# Altium schematic symbol library Custom1.SchLib: 476 symbols (part 15 of 16)
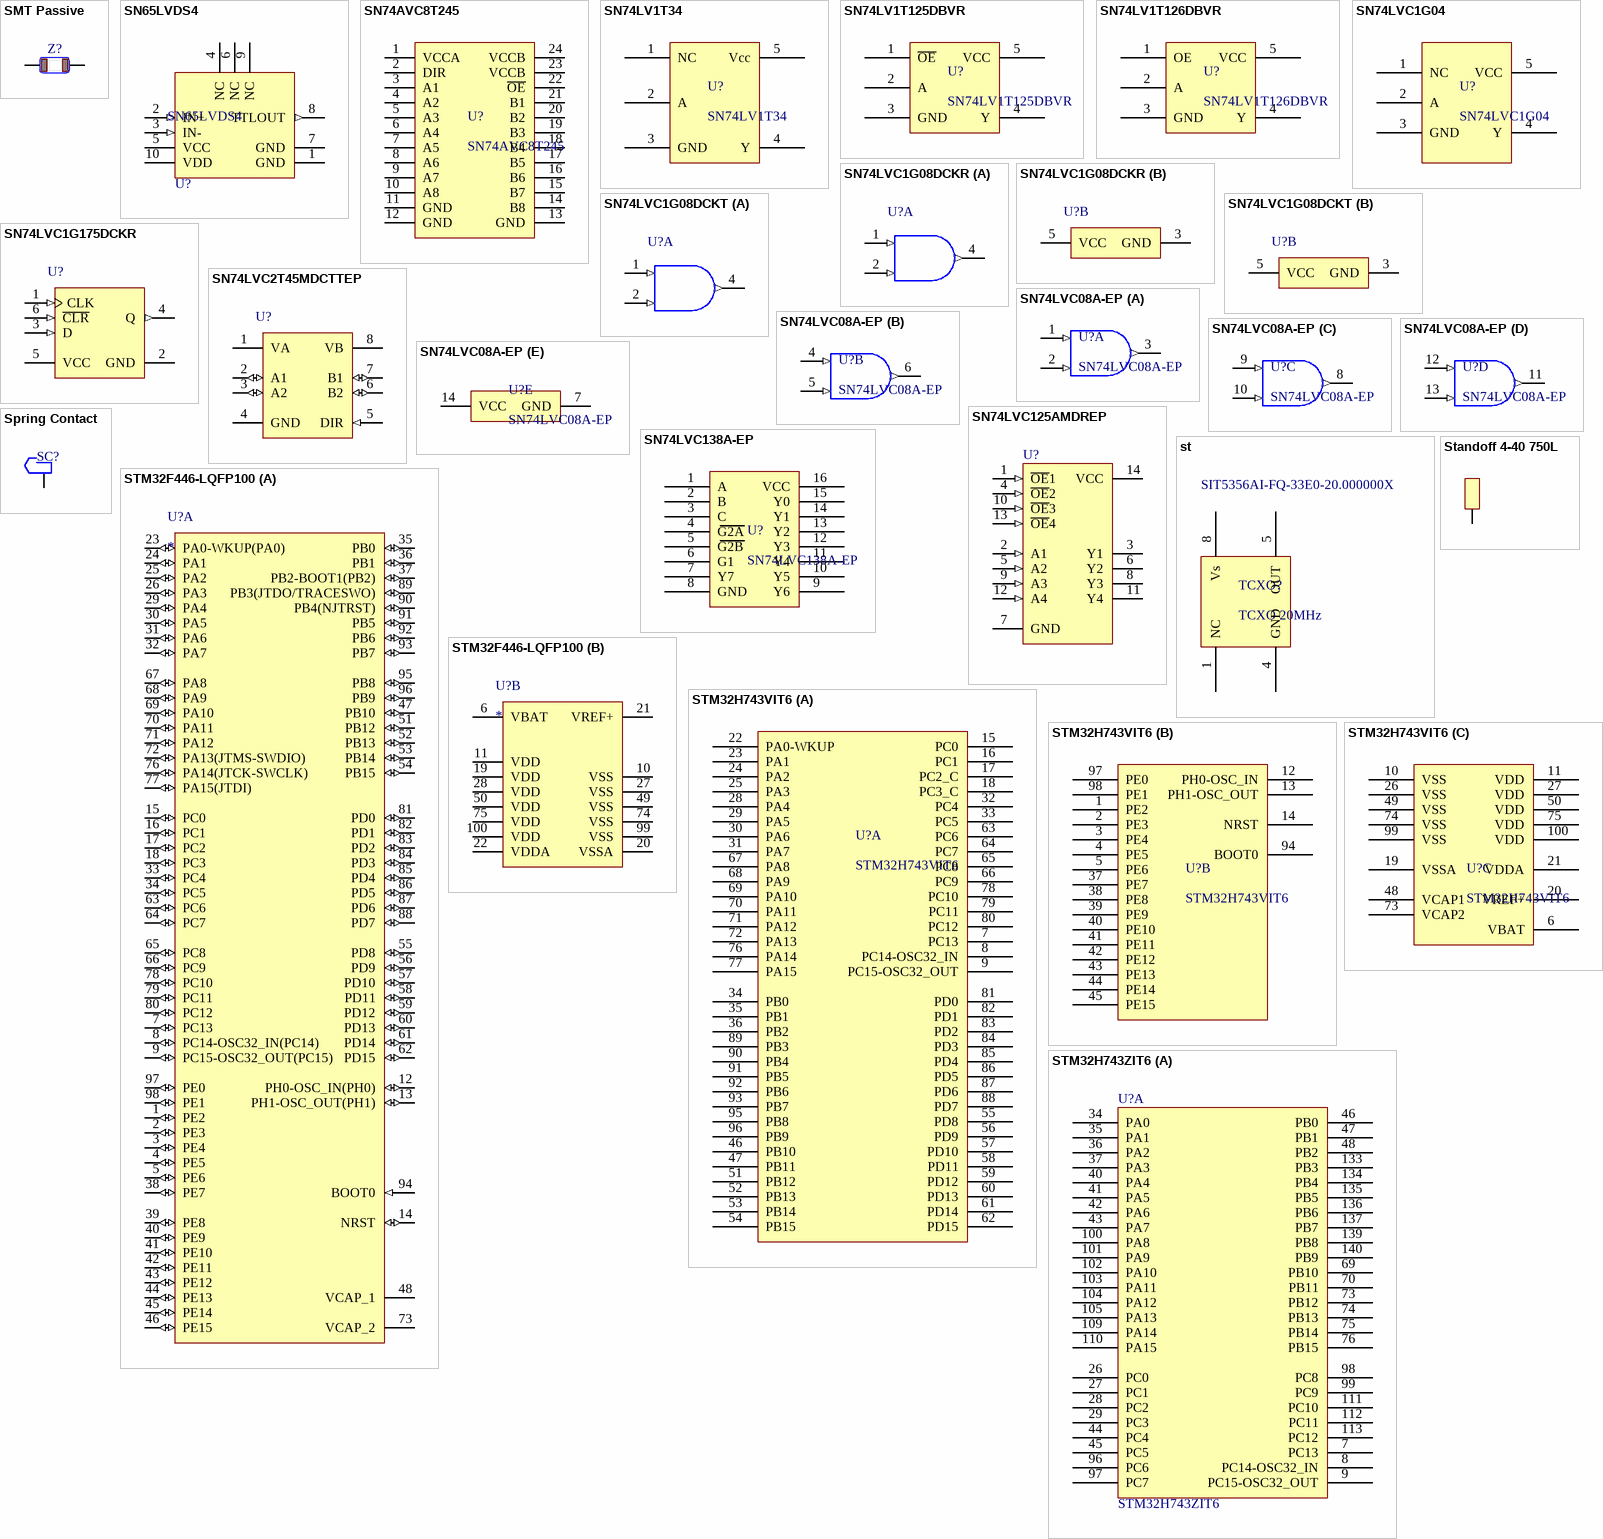
[diagram p39: symbols SMT Passive to STM32H743ZIT6]

## SN74LVC08A-EP
designator U?
Manufacturer: Texas Instruments; Manufacturer Part Number: SN74LVC08AMPWREP; Number of Inputs: 2; Propagation Delay: 4.1ns; Logic Function: AND; Min Supply Voltage: 2V; Max Supply Voltage: 3.6V; Number of Circuits: 4; Quiescent Current: 10uA; High Level Output Current: -24mA; Low Level Output Current: 24mA; Number of Output Lines: 1; Output Type: TTL; Supplier 1: Digi-Key; Stock 1: 2405; Pricing 1: 1=0.87000, 10=0.76500, 100=0.58630, 500=0.46350, 1000=0.37080 (USD); RoHS: Yes; Mount: Surface Mount; Case/Package: TSSOP; Number of Pins: 14; Weight: 0.002018oz; Min Operating Temperature: -40°C; Max Operating Temperature: 125°C; Package Quantity: 1; Packaging: Tape and Reel; Number of Gates: 4; Number of Input Lines: 2; Turn-On Delay Time: 4.1ns; Number of Bits: 4; Number of Outputs: 1; Number of Elements: 4; Radiation Hardening: No; Lead Free: Lead Free; Supplier Part Number 1: 296-22330-1-ND; ComponentLink1Description: Supplier Link; ComponentLink1URL: https://www.digikey.com/products/en?keywords=296-22330-1-ND; ComponentLink2Description: Datasheet; ComponentLink2URL: http://www.ti.com/general/docs/suppproductinfo.tsp?distId=10&gotoUrl=http%3A%2F%2Fwww.ti.com%2Flit%2Fgpn%2Fsn74lvc08a-ep
footprint PW0014A_M (SOP, 14-Leads, Body 5.1x4.5mm, Pitch 0.65mm, IPC Low Density)
part A pins: 1 1A (in) "Input A", 2 1B (in) "Input B", 3 1Y (out) "Output Y"
part B pins: 4 2A (in) "Input A", 5 2B (in) "Input B", 6 2Y (out) "Output Y"
part C pins: 8 3Y (out) "Output Y", 9 3A (in) "Input A", 10 3B (in) "Input B"
part D pins: 11 4Y (out) "Output Y", 12 4A (in) "Input A", 13 4B (in) "Input B"
part E pins: 7 GND (power) "Ground Pin", 14 VCC (power) "Power Pin"

## SN74LVC125AMDREP
designator U?
Quadruple Bus Buffer Gate with 3-State Outputs; Manufacturer: Texas Instruments; Manufacturer Part Number: SN74LVC125AMDREP; Logic Function: Buffer,Inverting; Polarity: Non-Inverting; Max Supply Voltage: 3.6V; Min Supply Voltage: 1.65V; Propagation Delay: 7ns; Number of Channels: 4; Low Level Output Current: 24mA; Number of Bits per Element: 1; High Level Output Current: -24mA; Turn-On Delay Time: 14.3ns; Quiescent Current: 10uA; ComponentLink1Description: Manufacturer Link; ComponentLink1URL: http://www.ti.com/; ComponentLink2Description: Discontinuation Notice; ComponentLink2URL: http://focus.ti.com/docs/prod/folders/print/sn74lvc125.html; Supplier 1: Digi-Key; Stock 1: 1097; Pricing 1: 1 = 1.50000, 10 = 1.33700, 100 = 1.04240, 500 = 0.86108, 1000 = 0.67980 (USD); RoHS: Yes; Mount: Surface Mount; Case/Package: SOIC; Number of Pins: 14; Min Operating Temperature: -40°C; Max Operating Temperature: 85°C; Package Quantity: 2500; Packaging: Tape and Reel; Number of Inputs: 4; Number of Outputs: 4; Number of Elements: 4; Number of Input Lines: 4; Number of Output Lines: 4; Number of Bits: 4; Radiation Hardening: No; REACH SVHC: No SVHC; Lead Free: Lead Free; ComponentLink3URL: http://www.mouser.com/ds/2/405/scas739c-110679.pdf?src-supplier=Mouser; ComponentLink3Description: http://www.mouser.com/ds/2/405/scas739c-110679.pdf?src-supplier=Mouser; ComponentLink4URL: http://www.ti.com/general/docs/lit/getliterature.tsp?genericPartNumber=SN74LVC125A-EP&&fileType=pdf&src-supplier=Avnet; ComponentLink4Description: http://www.ti.com/general/docs/lit/getliterature.tsp?genericPartNumber=SN74LVC125A-EP&&fileType=pdf&src-supplier=Avnet; ComponentLink5URL: http://www.ti.com/lit/ds/symlink/sn74lvc125a-ep.pdf?src-supplier=Digi-Key; ComponentLink5Description: http://www.ti.com/lit/ds/symlink/sn74lvc125a-ep.pdf?src-supplier=Digi-Key; Supplier Part Number 1: 296-21813-1-ND
footprint D014_N (SOIC, 14-Leads, Body 8.7x3.9mm, Pitch 1.27mm, IPC Medium Density)
3D model D014 (14-Pin Small Outline Integrated Circuit 1.27 mm Pitch)
signal-integrity model SN74LVC125D
pins: 1 ~{OE}1 (in), 2 A1 (in), 3 Y1 (hiz), 4 ~{OE}2 (in), 5 A2 (in), 6 Y2 (hiz), 7 GND (power), 8 Y3 (hiz), 9 A3 (in), 10 ~{OE}3 (in), 11 Y4 (hiz), 12 A4 (in), 13 ~{OE}4 (in), 14 VCC (power)

## SN74LVC138A-EP
designator U?
IC DECDER/DEMUX 3-8 LINE 16TSSOP; Manufacturer: Texas Instruments; Manufacturer Part Number: SN74LVC138AMPWTEP; Number of Inputs: 3; Number of Outputs: 8; Max Supply Voltage: 3.6V; Min Supply Voltage: 2V; Propagation Delay: 6.7ns; Logic Function: Decoder; Number of Elements: 1; High Level Output Current: -24mA; Low Level Output Current: 24mA; Polarity: Inverting; Turn-On Delay Time: 7.9ns; Quiescent Current: 10uA; Supply Type: Single; Supplier 1: Digi-Key; Stock 1: 758; Pricing 1: 1 = 2.13000, 10 = 1.91100, 100 = 1.53570 (USD); RoHS: Yes; Mount: Surface Mount; Case/Package: TSSOP; Number of Pins: 16; Weight: 0.002183oz; Min Operating Temperature: -40°C; Max Operating Temperature: 125°C; Packaging: Tape and Reel; Package Quantity: 250; Number of Input Lines: 3; Number of Output Lines: 8; Independent Circuits: 1; Number of Channels: 1; Radiation Hardening: No; Lead Free: Lead Free; Supplier Part Number 1: 296-24670-1-ND; ComponentLink1Description: Supplier Link; ComponentLink1URL: https://www.digikey.com/products/en?keywords=296-24670-1-ND; ComponentLink2Description: Datasheet; ComponentLink2URL: http://www.ti.com/general/docs/suppproductinfo.tsp?distId=10&gotoUrl=http%3A%2F%2Fwww.ti.com%2Flit%2Fgpn%2Fsn74lvc138a-ep
footprint PW0016A - TSSOP (TSSOP)
pins: 1 A, 2 B, 3 C, 4 G2A, 5 G2B, 6 G1, 7 Y7, 8 GND, 9 Y6, 10 Y5, 11 Y4, 12 Y3, 13 Y2, 14 Y1, 15 Y0, 16 VCC

## Spring Contact
designator SC?, comment Spring Contact S1941-42R SMT  (value not drawn)
RFI SHIELD FINGER GOLD SMD; Manufacturer: Harwin; ComponentLink1Description: Drawing; ComponentLink1URL: https://cdn.harwin.com/pdfs/S1941R.pdf; ComponentLink2Description: Supplier Link; ComponentLink2URL: https://www.digikey.com/products/en?keywords=952-3245-1-ND; Supplier 1: Digi-Key; Manufacturer Part Number: S1941-42R; Stock 1: 2973; Pricing 1: 1=0.68000, 10=0.56900, 25=0.49760, 100=0.42640 (USD); RoHS: No; Supplier Part Number 1: 952-3245-1-ND
footprint Spring Contact SM (Harwin S1941- 42R)
pins: 1

## st
designator TCXO?, comment TCXO 20MHz  Manufacturer Part Number: SIT5356AI-FQ-33E0-20.000000X
MEMS OSC TCXO 20.0000MHZ LVCMOS; Manufacturer: SiTime; Supplier 1: Digi-Key; Stock 1: 158; Pricing 1: 1 = 60.55000, 10 = 57.42000, 50 = 56.37640, 100 = 54.28840 (USD); RoHS: No; Supplier Part Number 1: 1473-30921-1-ND
footprint IQXT-210-1 (TCXO  IQD)
pins: 1 NC, 4 GND, 5 OUT, 8 Vs

## Standoff 4-40 750L
designator SO?  (value not drawn)
footprint Standoff 4-40 750
pins: 1

## STM32F446-LQFP100
designator U?
part A pins: 1 PE2 (io) "PE2/TRACECLK,SPI4_SCK,SAI1_MCLK_A,QUADSPI_BK1_IO2,FMC_A23,EVENTOUT", 2 PE3 (io) "PE3/TRACED0,SAI1_SD_B,FMC_A19,EVENTOUT", 3 PE4 (io) "PE4/TRACED1,SPI4_NSS,SAI1_FS_A,FMC_A20,DCMI_D4,EVENTOUT", 4 PE5 (io) "PE5/TRACED2,TIM9_CH1,SPI4_MISO,SAI1_SCK_A,FMC_A21,DCMI_D6,EVENTOUT", 5 PE6 (io) "PE6/TRACED3,TIM9_CH2,SPI4_MOSI,SAI1_SD_A,FMC_A22,DCMI_D7,EVENTOUT", 7 PC13 (io) "PC13/EVENTOUT/TAMP_1/WKUP1", 8 PC14-OSC32_IN(PC14) (io) "PC14/EVENTOUT/OSC32_IN", 9 PC15-OSC32_OUT(PC15) (io) "PC15/EVENTOUT/OSC32_OUT", 12 PH0-OSC_IN(PH0) (io) "PH0/EVENTOUT/OSC_IN", 13 PH1-OSC_OUT(PH1) (io) "PH1/EVENTOUT/OSC_OUT", 14 NRST (io), 15 PC0 (io) "PC0/SAI1_MCLK_B,OTG_HS_ULPI_STP,FMC_SDNWE,EVENTOUT/ADC123_IN10", 16 PC1 (io) "PC1/SPI3_MOSI/I2S3_SD,SAI1_SD_A,SPI2_MOSI/I2S2_SD,EVENTOUT/ADC123_IN11", 17 PC2 (io) "PC2/SPI2_MISO,OTG_HS_ULPI_DIR,FMC_SDNE0,EVENTOUT/ADC123_IN12", 18 PC3 (io) "PC3/SPI2_MOSI/I2S2_SD,OTG_HS_ULPI_NXT,FMC_SDCKE0,EVENTOUT/ADC123_IN13", 23 PA0-WKUP(PA0) (io) "PA0-WKUP(PA0)/TIM2_CH1/TIM2_ETR,TIM5_CH1,TIM8_ETR,USART2_CTS,UART4_TX,EVENTOUT/ADC123_IN0,WKUP0/TAMP_2", 24 PA1 (io) "PA1/TIM2_CH2,TIM5_CH2,USART2_RTS,UART4_RX,QUADSPI_BK1_IO3,SAI2_MCLK_B,EVENTOUT/ADC123_IN1", 25 PA2 (io) "PA2/TIM2_CH3,TIM5_CH3,TIM9_CH1,USART2_TX,SAI2_SCK_B,EVENTOUT/ADC123_IN2", 26 PA3 (io) "PA3/TIM2_CH4,TIM5_CH4,TIM9_CH2,SAI1_FS_A,USART2_RX,OTG_HS_ULPI_D0,EVENTOUT/ADC123_IN3", 29 PA4 (io) "PA4/SPI1_NSS/I2S1_WS,SPI3_NSS/I2S3_WS,USART2_CK,OTG_HS_SOF,DCMI_HSYNC,EVENTOUT/ADC12_IN4,DAC_OUT1", 30 PA5 (io) "PA5/TIM2_CH1/TIM2_ETR,TIM8_CH1N,SPI1_SCK/I2S1_CK,OTG_HS_ULPI_CK,EVENTOUT/ADC12_IN5,DAC_OUT2", 31 PA6 (io) "PA6/TIM1_BKIN,TIM3_CH1,TIM8_BKIN,SPI1_MISO,I2S2_MCK,TIM13_CH1,DCMI_PIXCLK,EVENTOUT/ADC12_IN6", 32 PA7 (io) "PA7/TIM1_CH1N,TIM3_CH2,TIM8_CH1N,SPI1_MOSI/I2S1_SD,TIM14_CH1,FMC_SDNWE,EVENTOUT/ADC12_IN7", 33 PC4 (io) "PC4/I2S1_MCK,SPDIFRX_IN2,FMC_SDNE0,EVENTOUT/ADC12_IN14", 34 PC5 (io) "PC5/USART3_RX,SPDIFRX_IN3,FMC_SDCKE0,EVENTOUT/ADC12_IN15", 35 PB0 (io) "PB0/TIM1_CH2N,TIM3_CH3,TIM8_CH2N,SPI3_MOSI/I2S3_SD,UART4_CTS,OTG_HS_ULPI_D1,SDIO_D1,EVENTOUT/ADC12_IN8", 36 PB1 (io) "PB1/TIM1_CH3N,TIM3_CH4,TIM8_CH3N,OTG_HS_ULPI_D2,SDIO_D2,EVENTOUT/ADC12_IN9", 37 PB2-BOOT1(PB2) (io) "PB2-BOOT1(PB2)/TIM2_CH4,SAI1_SD_A,SPI3_MOSI/I2S3_SD,QUADSPI_CLK,OTG_HS_ULPI_D4,SDIO_CK,EVENTOUT", 38 PE7 (io) "PE7/TIM1_ETR,UART5_RX,QUADSPI_BK2_IO0,FMC_D4,EVENTOUT", 39 PE8 (io) "PE8/TIM1_CH1N,UART5_TX,QUADSPI_BK2_IO1,FMC_D5,EVENTOUT", 40 PE9 (io) "PE9/TIM1_CH1,QUADSPI_BK2_IO2,FMC_D6,EVENTOUT", 41 PE10 (io) "PE10/TIM1_CH2N,QUADSPI_BK2_IO3,FMC_D7,EVENTOUT", 42 PE11 (io) "PE11/TIM1_CH2,SPI4_NSS,SAI2_SD_B,FMC_D8,EVENTOUT", 43 PE12 (io) "PE12/TIM1_CH3N,SPI4_SCK,SAI2_SCK_B,FMC_D9,EVENTOUT", 44 PE13 (io) "PE13/TIM1_CH3,SPI4_MISO,SAI2_FS_B,FMC_D10,EVENTOUT", 45 PE14 (io) "PE14/TIM1_CH4,SPI4_MOSI,SAI2_MCLK_B,FMC_D11,EVENTOUT", 46 PE15 (io) "PE15/TIM1_BKIN,FMC_D12,EVENTOUT", 47 PB10 (io) "PB10/TIM2_CH3,I2C2_SCL,SPI2_SCK/I2S2_CK,SAI1_SCK_A,USART3_TX,OTG_HS_ULPI_D3,EVENTOUT", 48 VCAP_1, 51 PB12 (io) "PB12/TIM1_BKIN,I2C2_SMBA,SPI2_NSS/I2S2_WS,SAI1_SCK_B,USART3_CK,CAN2_RX,OTG_HS_ULPI_D5,OTG_HS_ID,EVENTOUT", 52 PB13 (io) "PB13/TIM1_CH1N,SPI2_SCK/I2S2_CK,USART3_CTS,CAN2_TX,OTG_HS_ULPI_D6,EVENTOUT/OTG_HS_VBUS", 53 PB14 (io) "PB14/TIM1_CH2N,TIM8_CH2N,SPI2_MISO,USART3_RTS,TIM12_CH1,OTG_HS_DM,EVENTOUT", 54 PB15 (io) "PB15/RTC_REFIN,TIM1_CH3N,TIM8_CH3N,SPI2_MOSI/I2S2_SD,TIM12_CH2,OTG_HS_DP,EVENTOUT", 55 PD8 (io) "PD8/USART3_TX,SPDIFRX_IN1,FMC_D13,EVENTOUT", 56 PD9 (io) "PD9/USART3_RX,FMC_D14,EVENTOUT", 57 PD10 (io) "PD10/USART3_CK,FMC_D15,EVENTOUT", 58 PD11 (io) "PD11/FMPI2C1_SMBA,USART3_CTS,QUADSPI_BK1_IO0,SAI2_SD_A,FMC_A16,EVENTOUT", 59 PD12 (io) "PD12/TIM4_CH1,FMPI2C1_SCL,USART3_RTS,QUADSPI_BK1_IO1,SAI2_FS_A,FMC_A17,EVENTOUT", 60 PD13 (io) "PD13/TIM4_CH2,FMPI2C1_SDA,QUADSPI_BK1_IO3,SAI2_SCK_A,FMC_A18,EVENTOUT", 61 PD14 (io) "PD14/TIM4_CH3,FMPI2C1_SCL,SAI2_SCK_A,FMC_D0,EVENTOUT", 62 PD15 (io) "PD15/TIM4_CH4,FMPI2C1_SDA,FMC_D1,EVENTOUT", 63 PC6 (io) "PC6/TIM3_CH1,TIM8_CH1,FMPI2C1_SCL,I2S2_MCK,USART6_TX,SDIO_D6,DCMI_D0,EVENTOUT", 64 PC7 (io) "PC7/TIM3_CH2,TIM8_CH2,FMPI2C1_SDA,SPI2_SCK/I2S2_CK,I2S3_MCK,SPDIFRX_IN1,USART6_RX,SDIO_D7,DCMI_D1,EVENTOUT", 65 PC8 (io) "PC8/TRACED0,TIM3_CH3,TIM8_CH3,UART5_RTS,USART6_CK,SDIO_D0,DCMI_D2,EVENTOUT", 66 PC9 (io) "PC9/MCO2,TIM3_CH4,TIM8_CH4,I2C3_SDA,I2S_CKIN,UART5_CTS,QUADSPI_BK1_IO0,SDIO_D1,DCMI_D3,EVENTOUT", 67 PA8 (io) "PA8/MCO1,TIM1_CH1,I2C3_SCL,USART1_CK,OTG_FS_SOF,EVENTOUT", 68 PA9 (io) "PA9/TIM1_CH2,I2C3_SMBA,SPI2_SCK/I2S2_CK,SAI1_SD_B,USART1_TX,DCMI_D0,EVENTOUT/OTG_FS_VBUS", 69 PA10 (io) "PA10/TIM1_CH3,USART1_RX,OTG_FS_ID,DCMI_D1,EVENTOUT", 70 PA11 (io) "PA11/TIM1_CH4,USART1_CTS,CAN1_RX,OTG_FS_DM,EVENTOUT", 71 PA12 (io) "PA12/TIM1_ETR,USART1_RTS,SAI2_FS_B,CAN1_TX,OTG_FS_DP,EVENTOUT", 72 PA13(JTMS-SWDIO) (io) "PA13/JTMS-SWDIO,EVENTOUT", 73 VCAP_2, 76 PA14(JTCK-SWCLK) (io) "PA14/JTCK-SWCLK,EVENTOUT", 77 PA15(JTDI) (io) "PA15/JTDI,TIM2_CH1/TIM2_ETR,HDMI_CEC,SPI1_NSS/I2S1_WS,SPI3_NSS/I2S3_WS,UART4_RTS,EVENTOUT", 78 PC10 (io) "PC10/SPI3_SCK/I2S3_CK,USART3_TX,UART4_TX,QUADSPI_BK1_IO1,SDIO_D2,DCMI_D8,EVENTOUT", 79 PC11 (io) "PC11/SPI3_MISO,USART3_RX,UART4_RX,QUADSPI_BK2_NCS,SDIO_D3,DCMI_D4,EVENTOUT", 80 PC12 (io) "PC12/I2C2_SDA,SPI3_MOSI/I2S3_SD,USART3_CK,UART5_TX,SDIO_CK,DCMI_D9,EVENTOUT", 81 PD0 (io) "PD0/SPI4_MISO,SPI3_MOSI/I2S3_SD,CAN1_RX,FMC_D2,EVENTOUT", 82 PD1 (io) "PD1/SPI2_NSS/I2S2_WS,CAN1_TX,FMC_D3,EVENTOUT", 83 PD2 (io) "PD2/TIM3_ETR,UART5_RX,SDIO_CMD,DCMI_D11,EVENTOUT", 84 PD3 (io) "PD3/TRACED1,SPI2_SCK/I2S2_CK,USART2_CTS,QUADSPI_CLK,FMC_CLK,DCMI_D5,EVENTOUT", 85 PD4 (io) "PD4/USART2_RTS,FMC_NOE,EVENTOUT", 86 PD5 (io) "PD5/USART2_TX,FMC_NWE,EVENTOUT", 87 PD6 (io) "PD6/SPI3_MOSI/I2S3_SD,SAI1_SD_A,USART2_RX,FMC_NWAIT,DCMI_D10,EVENTOUT", 88 PD7 (io) "PD7/USART2_CK,SPDIFRX_IN0,FMC_NE1,EVENTOUT", 89 PB3(JTDO/TRACESWO) (io) "PB3/JTDO/TRACESWO,TIM2_CH2,I2C2_SDA,SPI1_SCK/I2S1_CK,SPI3_SCK/I2S3_CK,EVENTOUT", 90 PB4(NJTRST) (io) "PB4/NJTRST,TIM3_CH1,I2C3_SDA,SPI1_MISO,SPI3_MISO,SPI2_NSS/I2S2_WS,EVENTOUT", 91 PB5 (io) "PB5/TIM3_CH2,I2C1_SMBA,SPI1_MOSI/I2S1_SD,SPI3_MOSI/I2S3_SD,CAN2_RX,OTG_HS_ULPI_D7,FMC_SDCKE1,DCMI_D10,EVENTOUT", 92 PB6 (io) "PB6/TIM4_CH1,HDMI_CEC,I2C1_SCL,USART1_TX,CAN2_TX,QUADSPI_BK1_NCS,FMC_SDNE1,DCMI_D5,EVENTOUT", 93 PB7 (io) "PB7/TIM4_CH2,I2C1_SDA,USART1_RX,SPDIFRX_IN0,FMC_NL,DCMI_VSYNC,EVENTOUT", 94 BOOT0 (in) "BOOT0/VPP", 95 PB8 (io) "PB8/TIM2_CH1/TIM2_ETR,TIM4_CH3,TIM10_CH1,I2C1_SCL,CAN1_RX,SDIO_D4,DCMI_D6,EVENTOUT", 96 PB9 (io) "PB9/TIM2_CH2,TIM4_CH4,TIM11_CH1,I2C1_SDA,SPI2_NSS/I2S2_WS,SAI1_FS_B,CAN1_TX,SDIO_D5,DCMI_D7,EVENTOUT", 97 PE0 (io) "PE0/TIM4_ETR,SAI2_MCLK_A,FMC_NBL0,DCMI_D2,EVENTOUT", 98 PE1 (io) "PE1/FMC_NBL1,DCMI_D3,EVENTOUT"
part B pins: 6 VBAT (power), 10 VSS (power), 11 VDD (power), 19 VDD (power), 20 VSSA (power), 21 VREF+ (power), 22 VDDA (power), 27 VSS (power), 28 VDD (power), 49 VSS (power), 50 VDD (power), 74 VSS (power), 75 VDD (power), 99 VSS (power), 100 VDD (power)

## STM32H743VIT6
designator U?
ARM® Cortex®-M7; Supplier 1: Digi-Key; Supplier Part Number 1: 497-17720-ND; ComponentLink1Description: Supplier Link; ComponentLink1URL: https://www.digikey.com/products/en?keywords=stm32H743VIT6
footprint STM-LQFP100_L (Thin QFP, 100-Leads, Body 14x14mm, Pitch 0.5mm, IPC High Density)
part A pins: 7 PC13, 8 PC14-OSC32_IN, 9 PC15-OSC32_OUT, 15 PC0, 16 PC1, 17 PC2_C, 18 PC3_C, 22 PA0-WKUP, 23 PA1, 24 PA2, 25 PA3, 28 PA4, 29 PA5, 30 PA6, 31 PA7, 32 PC4, 33 PC5, 34 PB0, 35 PB1, 36 PB2, 46 PB10, 47 PB11, 51 PB12, 52 PB13, 53 PB14, 54 PB15, 55 PD8, 56 PD9, 57 PD10, 58 PD11, 59 PD12, 60 PD13, 61 PD14, 62 PD15, 63 PC6, 64 PC7, 65 PC8, 66 PC9, 67 PA8, 68 PA9, 69 PA10, 70 PA11, 71 PA12, 72 PA13, 76 PA14, 77 PA15, 78 PC10, 79 PC11, 80 PC12, 81 PD0, 82 PD1, 83 PD2, 84 PD3, 85 PD4, 86 PD5, 87 PD6, 88 PD7, 89 PB3, 90 PB4, 91 PB5, 92 PB6, 93 PB7, 95 PB8, 96 PB9
part B pins: 1 PE2, 2 PE3, 3 PE4, 4 PE5, 5 PE6, 12 PH0-OSC_IN, 13 PH1-OSC_OUT, 14 NRST, 37 PE7, 38 PE8, 39 PE9, 40 PE10, 41 PE11, 42 PE12, 43 PE13, 44 PE14, 45 PE15, 94 BOOT0, 97 PE0, 98 PE1
part C pins: 6 VBAT, 10 VSS, 11 VDD, 19 VSSA, 20 VREF+, 21 VDDA, 26 VSS, 27 VDD, 48 VCAP1, 49 VSS, 50 VDD, 73 VCAP2, 74 VSS, 75 VDD, 99 VSS, 100 VDD

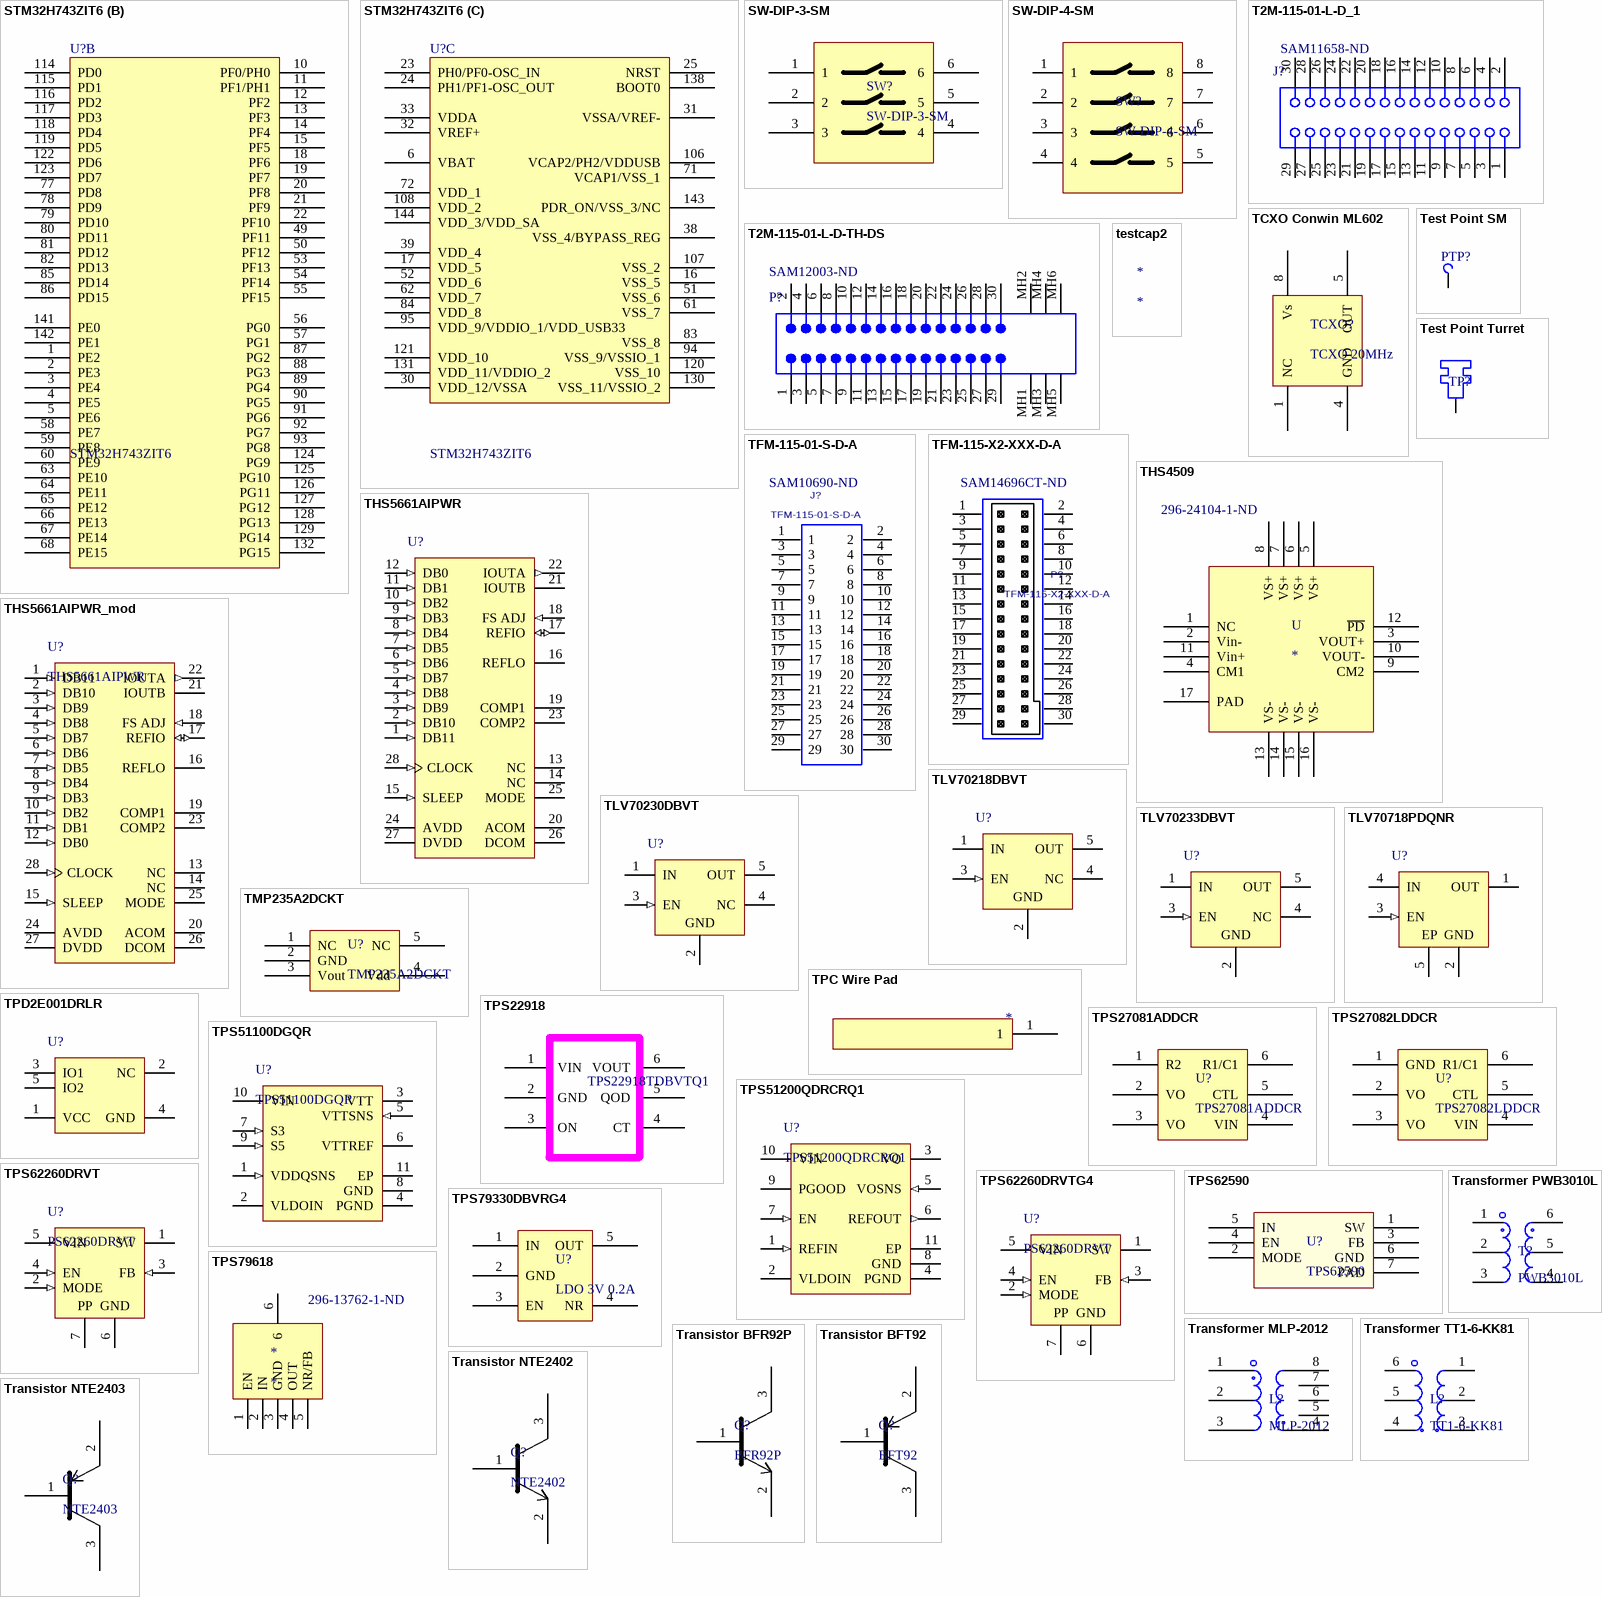
[diagram p23: symbols STM32H743ZIT6 to Transistor NTE2403]

## STM32H743ZIT6
designator U?
ARM® Cortex®-M7 STM32H7 Microcontroller IC 32-Bit 400MHz 2MB (2M x 8) FLASH 144-LQFP (20x20); Manufacturer: STMicroelectronics; Supplier 1: Digi-Key; Manufacturer Part Number: STM32H743ZIT6; Stock 1: 331; Pricing 1: 1 = 22.91000, 60 = 20.17900, 120 = 18.04242, 540 = 16.38059 (USD); RoHS: No; Supplier Part Number 1: 497-17721-ND; ComponentLink1Description: Datasheet; ComponentLink1URL: https://www.st.com/resource/en/datasheet/stm32h743bi.pdf; ComponentLink2Description: STM32H743, 753, 750 Reference Manual; ComponentLink2URL: https://www.st.com/resource/en/reference_manual/dm00314099.pdf; ComponentLink3Description: STM32H743xl Errata; ComponentLink3URL: https://www.st.com/resource/en/errata_sheet/dm00368411.pdf; ComponentLink4Description: Datasheet HTML; ComponentLink4URL: https://www.digikey.com/en/datasheets/stmicroelectronics/stmicroelectronics-en-dm00387108
footprint STM-LQFP144_N (Thin QFP, 144-Leads, Body 20x20mm, Pitch 0.5mm, IPC Medium Density)
part A pins: 7 PC13, 8 PC14-OSC32_IN, 9 PC15-OSC32_OUT, 26 PC0, 27 PC1, 28 PC2, 29 PC3, 34 PA0, 35 PA1, 36 PA2, 37 PA3, 40 PA4, 41 PA5, 42 PA6, 43 PA7, 44 PC4, 45 PC5, 46 PB0, 47 PB1, 48 PB2, 69 PB10, 70 PB11, 73 PB12, 74 PB13, 75 PB14, 76 PB15, 96 PC6, 97 PC7, 98 PC8, 99 PC9, 100 PA8, 101 PA9, 102 PA10, 103 PA11, 104 PA12, 105 PA13, 109 PA14, 110 PA15, 111 PC10, 112 PC11, 113 PC12, 133 PB3, 134 PB4, 135 PB5, 136 PB6, 137 PB7, 139 PB8, 140 PB9
part B pins: 1 PE2, 2 PE3, 3 PE4, 4 PE5, 5 PE6, 10 PF0/PH0, 11 PF1/PH1, 12 PF2, 13 PF3, 14 PF4, 15 PF5, 18 PF6, 19 PF7, 20 PF8, 21 PF9, 22 PF10, 49 PF11, 50 PF12, 53 PF13, 54 PF14, 55 PF15, 56 PG0, 57 PG1, 58 PE7, 59 PE8, 60 PE9, 63 PE10, 64 PE11, 65 PE12, 66 PE13, 67 PE14, 68 PE15, 77 PD8, 78 PD9, 79 PD10, 80 PD11, 81 PD12, 82 PD13, 85 PD14, 86 PD15, 87 PG2, 88 PG3, 89 PG4, 90 PG5, 91 PG6, 92 PG7, 93 PG8, 114 PD0, 115 PD1, 116 PD2, 117 PD3, 118 PD4, 119 PD5, 122 PD6, 123 PD7, 124 PG9, 125 PG10, 126 PG11, 127 PG12, 128 PG13, 129 PG14, 132 PG15, 141 PE0, 142 PE1
part C pins: 6 VBAT, 16 VSS_5, 17 VDD_5, 23 PH0/PF0-OSC_IN, 24 PH1/PF1-OSC_OUT, 25 NRST, 30 VDD_12/VSSA, 31 VSSA/VREF-, 32 VREF+, 33 VDDA, 38 VSS_4/BYPASS_REG, 39 VDD_4, 51 VSS_6, 52 VDD_6, 61 VSS_7, 62 VDD_7, 71 VCAP1/VSS_1, 72 VDD_1, 83 VSS_8, 84 VDD_8, 94 VSS_9/VSSIO_1, 95 VDD_9/VDDIO_1/VDD_USB33, 106 VCAP2/PH2/VDDUSB, 107 VSS_2, 108 VDD_2, 120 VSS_10, 121 VDD_10, 130 VSS_11/VSSIO_2, 131 VDD_11/VDDIO_2, 138 BOOT0, 143 PDR_ON/VSS_3/NC, 144 VDD_3/VDD_SA

## SW-DIP-3-SM
designator SW?
3-position DIP switch, SM; Manufacturer: CTS Electrocomponents; Manufacturer Part Number: 219-3MST; Circuit: SPST; Number of Positions: 3; Contact Rating @ Voltage: 0.1A @ 50VDC; Actuator Type: Standard; Actuator Level: Raised; Washable: Yes; Supplier 1: Digi-Key; Supplier Part Number 1: CT2193MST-ND; RoHS: RoHS Compliant; Category: Switches; Stock: 7859; Pricing: 1=0.69, 10=0.672, 100=0.569, 500=0.49142, 1000=0.45262, 5000=0.36856 (USD); Mounting Type: Surface Mount; Orientation: Top Actuated; ComponentLink1URL: http://www.ctscorp.com/components/Datasheets/219.pdf; ComponentLink1Description: http://www.ctscorp.com/components/Datasheets/219.pdf
footprint SOP254P990X385-6N (SOP, 6-Leads, Body 9.60x6.73mm, Pitch 2.54mm, IPC Medium Density)
pins: 1, 2, 3, 4, 5, 6

## SW-DIP-4-SM
designator SW?
4-position DIP switch, SM; Manufacturer: CTS Electrocomponents; Manufacturer Part Number: 219-4MST; Circuit: SPST; Number of Positions: 4; Contact Rating @ Voltage: 0.1A @ 50VDC; Actuator Type: Standard; Actuator Level: Raised; Washable: Yes; Supplier 1: Digi-Key; Supplier Part Number 1: CT2194MST-ND; RoHS: RoHS Compliant; Category: Switches; Stock: 14096; Pricing: 1=0.76, 10=0.744, 100=0.6296, 500=0.54378, 1000=0.50085, 5000=0.40784 (USD); Mounting Type: Surface Mount; Orientation: Top Actuated; ComponentLink1URL: http://www.ctscorp.com/components/Datasheets/219.pdf; ComponentLink1Description: http://www.ctscorp.com/components/Datasheets/219.pdf
footprint SOP254P990X385-8N (SOP, 6-Leads, Body 9.60x6.73mm, Pitch 2.54mm, IPC Medium Density)
pins: 1, 2, 3, 4, 5, 6, 7, 8

## T2M-115-01-L-D-TH-DS
designator P?  Supplier Part Number 1: SAM12003-ND
High Reliability Cable Header, Through-hole, Vertical, -55 to 125 degC, 2 mm Pitch, 30-Pin, Male, RoHS; Manufacturer: Samtec; PartNumber: T2M-115-01-L-D-TH-DS; Pitch: 2 mm; DatasheetVersion: F-214; PackageVersion: V, 3/2009; PackageReference: T2M-115-01-X-D-TH-DS; PackageDescription: 2mm Shrouded Terminal Strip; Orientation: Vertical; RoHS: True; Temperature Range: -55 to 125 degC; Mounting Technology: Through-hole; ComponentLink1Description: Manufacturer URL; ComponentLink1URL: http://www.samtec.com; ComponentLink2Description: Datasheet; ComponentLink2URL: http://d2a072wq521u33.cloudfront.net/catalog_english//t2m.pdf; ComponentLink3Description: Package Specification; ComponentLink3URL: http://www.samtec.com/documents/webfiles/cpdf/T2M-1XX-XX-X-D-XX-XX-MKT.pdf; Supplier 1: Digi-Key; Manufacturer Part Number: T2M-115-01-L-D-TH-DS; Stock 1: 97; Pricing 1: 1 = 9.80000, 10 = 9.37200, 100 = 7.88100, 500 = 6.60300, 1000 = 5.83620 (USD); Min Operating Temperature: -55°C; Max Operating Temperature: 125°C; ComponentLink4URL: http://datasheet.octopart.com/T2M-115-01-L-D-TH-DS-Samtec-datasheet-97293741.pdf; ComponentLink4Description: http://datasheet.octopart.com/T2M-115-01-L-D-TH-DS-Samtec-datasheet-97293741.pdf; ComponentLink5URL: http://sigma.octopart.com/97293742/technical_drawing/Samtec-T2M-115-01-L-D-TH-DS.pdf; ComponentLink5Description: http://sigma.octopart.com/97293742/technical_drawing/Samtec-T2M-115-01-L-D-TH-DS.pdf; ComponentLink6URL: http://datasheet.octopart.com/T2M-115-01-L-D-TH-DS-Samtec-datasheet-116536274.pdf; ComponentLink6Description: http://datasheet.octopart.com/T2M-115-01-L-D-TH-DS-Samtec-datasheet-116536274.pdf
footprint SMTC-T2M-115-01-X-D-TH-DS (Shrouded Terminal Strip, 2x15 Pins, Vertical, 2mm Pitch, Male)
pins: 1, 2, 3, 4, 5, 6, 7, 8, 9, 10, 11, 12, 13, 14, 15, 16, 17, 18, 19, 20, 21, 22, 23, 24, 25, 26, 27, 28, 29, 30, MH1, MH2, MH3, MH4, MH5, MH6

## T2M-115-01-L-D_1
designator J?  Supplier Part Number 1: SAM11658-ND
High Reliability Cable Socket, Surface Mount, Vertical, -55 to 125 degC, 2 mm Pitch, 30-Pin, Female, RoHS; Manufacturer: Samtec; PartNumber: S2M-115-02-F-D-K; Manufacturer Part Number: S2M-115-01-L-D; Pitch: 2 mm; Contact Resistance: 10mR; Number of Contacts: 30; Gender: Receptacle; DatasheetVersion: F-214; PackageVersion: M, 9/2010; PackageReference: S2M-115-02-X-D-K; PackageDescription: 2 mm Double Row Socket Strip; Orientation: Vertical; RoHS: True; Temperature Range: -55 to 125 degC; Mounting Technology: Surface Mount; ComponentLink1Description: Manufacturer URL; ComponentLink1URL: http://www.samtec.com; ComponentLink2Description: Datasheet; ComponentLink2URL: http://www.samtec.com/documents/webfiles/pdf/s2m.pdf; ComponentLink3Description: Package Specification; ComponentLink3URL: http://www.samtec.com/documents/webfiles/cpdf/S2M-1XX-XX-X-D-XX-XX-MKT.pdf; Supplier 1: Digi-Key; Stock 1: 307; Pricing 1: 1 = 6.42000, 10 = 5.85900, 100 = 4.46400, 500 = 3.76650, 1000 = 3.55725 (USD); Mount: Through Hole; Contact Plating: Gold; Contact Material: Copper; Housing Color: Black; Housing Material: Polymer; Min Operating Temperature: -55°C; Max Operating Temperature: 125°C; Number of Rows: 2; Termination: Solder; Length: 30.35mm; REACH SVHC: No SVHC; ComponentLink4URL: http://cloud.samtec.com/catalog_english/s2m.pdf; ComponentLink4Description: http://cloud.samtec.com/catalog_english/s2m.pdf; ComponentLink5URL: http://datasheet.octopart.com/S2M-115-01-L-D-Samtec-datasheet-97202882.pdf; ComponentLink5Description: http://datasheet.octopart.com/S2M-115-01-L-D-Samtec-datasheet-97202882.pdf; ComponentLink6URL: http://sigma.octopart.com/97202883/technical_drawing/Samtec-S2M-115-01-L-D.pdf; ComponentLink6Description: http://sigma.octopart.com/97202883/technical_drawing/Samtec-S2M-115-01-L-D.pdf; ComponentLink7URL: http://datasheet.octopart.com/S2M-115-01-L-D-Samtec-datasheet-10883520.pdf; ComponentLink7Description: http://datasheet.octopart.com/S2M-115-01-L-D-Samtec-datasheet-10883520.pdf; ComponentLink8URL: http://datasheet.octopart.com/S2M-115-01-L-D-Samtec-datasheet-10882915.pdf; ComponentLink8Description: http://datasheet.octopart.com/S2M-115-01-L-D-Samtec-datasheet-10882915.pdf; ComponentLink9URL: http://datasheet.octopart.com/S2M-115-01-L-D-Samtec-datasheet-116535980.pdf; ComponentLink9Description: http://datasheet.octopart.com/S2M-115-01-L-D-Samtec-datasheet-116535980.pdf
footprint SMTC-S2M-115-02-X-D-K (Socket Strip, 2x15 Pins, Vertical, 2mm Pitch, Female)
pins: 1, 2, 3, 4, 5, 6, 7, 8, 9, 10, 11, 12, 13, 14, 15, 16, 17, 18, 19, 20, 21, 22, 23, 24, 25, 26, 27, 28, 29, 30

## TCXO Conwin ML602
designator TCXO?, comment TCXO 20MHz
XTAL OSC TCXO 20.0000MHZ LVCMOS; Manufacturer: Connor-Winfield; Manufacturer Part Number: ML602-020.0M; Max Supply Current: 6mA; ComponentLink1URL: http://www.conwin.com/datasheets/tx/tx418.pdf?src-supplier=Digi-Key; ComponentLink1Description: http://www.conwin.com/datasheets/tx/tx418.pdf?src-supplier=Digi-Key; Supplier 1: Digi-Key; Stock 1: 281; Pricing 1: 1 = 28.05000, 10 = 26.18000, 50 = 25.71260, 100 = 24.87100 (USD); RoHS: Yes; Mount: Surface Mount; Case/Package: SMD/SMT; Min Operating Temperature: -40°C; Max Operating Temperature: 85°C; Packaging: Tape and Reel; Frequency: 20MHz; Length: 0.197inch; Height: 0.083inch; Width: 0.126inch; Supplier Part Number 1: CW893CT-ND
footprint TCXO 5x3.2mm (TCXO)
pins: 1 NC, 4 GND, 5 OUT, 8 Vs

## Test Point SM
designator PTP?, comment PC TEST POINT MINI SMD  (value not drawn)
5019KCT-ND; Manufacturer: Keystone Electronics; Manufacturer Part Number: 5019; Supplier 1: Digi-Key; Supplier Part Number 1: 5019KCT-ND; RoHS: RoHS Compliant; Category: Test and Measurement; Stock: 10485; Pricing: 1=0.3, 10=0.287, 50=0.2092, 100=0.201, 250=0.18048, 500=0.17228 (USD); Packaging: Cut Tape (CT); Type: PC Test Point, Miniature; Terminal: 0.015" (0.38mm) Phosphor Bronze, Silver Plated; Mounting Type: Surface Mount; Material: Phosphor Bronze; Color: -; ComponentLink1URL: http://www.keyelco.com/product-pdf.cfm?p=1357; ComponentLink1Description: http://www.keyelco.com/product-pdf.cfm?p=1357
footprint Test Point SM (80x150)
pins: 1

## Test Point Turret
designator TP?
TERM TURRET SNG; Manufacturer: Mill-Max; Manufacturer Part Number: 2506-3-00-80-00-00-07-0; Plating: Tin; Gender: Male; Outside Diameter: 3.18mm; Board Thickness: 2.39mm; Hole Diameter: 1.7mm; Supplier 1: Digi-Key; Stock 1: 25825; Pricing 1: 1 = 0.87000, 10 = 0.76500, 25 = 0.72000, 50 = 0.69000, 100 = 0.66000, 250 = 0.60000, 500 = 0.54000, 1000 = 0.48000, 2500 = 0.43500 (USD); RoHS: Yes; Mount: PCB; Material: Brass; Package Quantity: 500; Packaging: Bulk; Length: 6.88mm; ComponentLink1Description: Data Sheet 2506-3; ComponentLink1URL: https://www.mill-max.com/assets/pdfs/232.pdf; Supplier Part Number 1: ED11398-ND
footprint Turret-1592
pins: 1

## testcap2
designator *

## TFM-115-01-S-D-A
designator J?  Supplier Part Number 1: SAM10690-ND
0.050" TERMINAL STRIP, PTH ASSEMBLY.; MANUFACTURER: SAMTEC; Manufacturer Part Number: SFM-115-01-S-D-A; PCB DECAL: TFM-115-X2-XXX-D-A; Max Current Rating: 5A; Contact Resistance: 15mR; Connector Type: Receptacle,Socket; Number of Positions: 30; Max Voltage Rating (AC): 350V; Gender: Receptacle; Pitch: 1.27mm; Row Spacing: 0.05inch; CREATED: December 8, 2014 - Wendy Xin; Supplier 1: Digi-Key; RoHS: Yes; Stock 1: 424; Pricing 1: 1 = 6.72000, 25 = 5.84000, 100 = 4.67200, 500 = 3.94200, 1000 = 3.72300 (USD); Mount: Through Hole; Color: Black; Contact Plating: Gold; Contact Material: Copper; Housing Color: Black; Housing Material: Polymer; Min Operating Temperature: -55°C; Max Operating Temperature: 125°C; Number of Rows: 2; Packaging: Rail/Tube; Termination: Solder; Number of Contacts: 30; Orientation: Straight; Length: 22.22mm; Depth: 3.68mm; REACH SVHC: No SVHC
pins: 1, 2, 3, 4, 5, 6, 7, 8, 9, 10, 11, 12, 13, 14, 15, 16, 17, 18, 19, 20, 21, 22, 23, 24, 25, 26, 27, 28, 29, 30

## TFM-115-X2-XXX-D-A
designator P?  Supplier Part Number 1: SAM14696CT-ND
0.050" TERMINAL STRIP, SURFACE MOUNT ASSEMBLY.; MANUFACTURER: SAMTEC; Manufacturer Part Number: TFM-115-02-S-D-A-K-TR; Number of Contacts: 30; Gender: Male; Max Voltage Rating (AC): 350V; Max Current Rating: 5A; Pitch: 1.27mm; CREATED: December 8, 2014 - Wendy Xin; PCB DECAL: TFM-115-X2-XXX-D-A; Supplier 1: Digikey; RoHS: Yes; Stock 1: 350; Pricing 1: 1 = 7.05000, 10 = 6.75500, 100 = 5.58030 (USD); Contact Plating: Gold; Contact Material: Bronze; Housing Color: Black; Housing Material: Polymer; Min Operating Temperature: -55°C; Max Operating Temperature: 125°C; Packaging: Tape and Reel; Number of Rows: 2; Termination: Solder; Orientation: Straight; Length: 22.23mm; Depth: 5.72mm; Radiation Hardening: No; REACH SVHC: No SVHC; ComponentLink1Description: Supplier Link; ComponentLink1URL: https://www.digikey.com/products/en?keywords=SAM14696CT-ND; ComponentLink2Description: Datasheet; ComponentLink2URL: http://suddendocs.samtec.com/catalog_english/tfm.pdf; ComponentLink3Description: Drawing; ComponentLink3URL: http://suddendocs.samtec.com/prints/tfm-1xx-xx-xxx-d-xxx-mkt.pdf
footprint TFM-115-X2-XXX-D-A
pins: 1, 2, 3, 4, 5, 6, 7, 8, 9, 10, 11, 12, 13, 14, 15, 16, 17, 18, 19, 20, 21, 22, 23, 24, 25, 26, 27, 28, 29, 30

## THS4509
designator U  Supplier Part Number 1: 296-24104-1-ND
IC Op Amp Full Diff; Supplier: Digi-Key; Supplier P/N: 296-24104-6-ND; Supplier 1: Digi-Key
footprint QFN50P300X300X100_HS-17N (QFN, 16-Leads, Body 3.00x3.00mm, Pitch 0.50mm, Thermal Pad 1.40x1.40mm, IPC Medium Density)
pins: 1 NC, 2 Vin-, 3 VOUT+, 4 CM1, 5 VS+, 6 VS+, 7 VS+, 8 VS+, 9 CM2, 10 VOUT-, 11 Vin+, 12 ~{PD}, 13 VS-, 14 VS-, 15 VS-, 16 VS-, 17 PAD

## THS5661AIPWR
designator U?
Single 12-Bit TxDAC, 125 Msps, -40 to +85 degC, RU-28, Pb-Free, Tube; Manufacturer: Texas Instruments; Manufacturer Part Number: THS5661AIPWR; Settling Time: 35ns; Number of Bits: 12; Data Interface: Parallel; Number of Converters: 1; Voltage Supply Source: Analog and Digital; Number of Outputs and Type: 2 Current, Unipolar; Sampling Rate (Per Second): 125M; Supplier 1: Digi-Key; RoHS: RoHS Compliant; Category: Integrated Circuits (ICs); Stock 1: 1433; Pricing 1: 1=13.48, 10=12.236, 25=11.3456, 100=10.395, 250=9.504, 500=8.8506, 750=8.4348, 1000=7.425 (USD); Packaging: Cut Tape (CT); Operating Temperature: -40°C ~ 85°C; Mounting Type: Surface Mount; Package / Case: 28-TSSOP (0.173", 4.40mm Width); Supplier Device Package: 28-TSSOP; ComponentLink1URL: http://www.ti.com/lit/ds/symlink/ths5661a.pdf; ComponentLink1Description: http://www.ti.com/lit/ds/symlink/ths5661a.pdf; Supplier Part Number 1: 296-27686-1-ND
footprint RU-28_L (TSOP, 28-Leads, Body 9.7x4.4mm, Pitch 0.65mm, IPC High Density)
footprint RU-28_M (TSOP, 28-Leads, Body 9.7x4.4mm, Pitch 0.65mm, IPC Low Density)
footprint RU-28_N (TSOP, 28-Leads, Body 9.7x4.4mm, Pitch 0.65mm, IPC Medium Density)
pins: 1 DB11 (in) "Most Significant Data Bit (MSB).", 2 DB10 (in) "Data Bit 10", 3 DB9 (in) "Data Bit 9", 4 DB8 (in) "Data Bit 8", 5 DB7 (in) "Data Bit 7", 6 DB6 (in) "Data Bit 6", 7 DB5 (in) "Data Bit 5", 8 DB4 (in) "Data Bit 4", 9 DB3 (in) "Data Bit 3", 10 DB2 (in) "Data Bit 2", 11 DB1 (in) "Data Bit 1", 12 DB0 (in) "Least Significant Data Bit (LSB).", 13 NC "No Internal Connection.", 14 NC "No Internal Connection.", 15 SLEEP (in) "Power-down Control Input. Active High. Contains active pull-down circuit, thus may be left unterminated if not used.", 16 REFLO "Reference Ground when Internal 1.2 V Reference Used. Connect to AVDD to disable internal reference.", 17 REFIO (io) "Reference Input/Output. Serves as reference input when internal reference disabled (i.e., Tie REFLO to AVDD). Serves as 1.2 V reference output when internal reference activated (i.e., Tie REFLO to ACOM). Requires 0.1 uF (See Datasheet)", 18 FS ADJ (in) "Full-Scale Current Output Adjust.", 19 COMP1 "Bandwidth/Noise Reduction Node. Add 0.1 uF to AVDD for optimum performance.", 20 ACOM (power) "Analog Common.", 21 IOUTB "Complementary DAC Current Output. Full-scale current when all data bits are 0s.", 22 IOUTA (out) "DAC Current Output. Full-scale current when all data bits are 1s.", 23 COMP2 "Internal Bias Node for Switch Driver Circuitry. Decouple to ACOM with 0.1 uF capacitor.", 24 AVDD (power) "Analog Supply Voltage (+2.7 V to +5.5 V).", 25 MODE "No Internal Connection.", 26 DCOM (power) "Digital Common.", 27 DVDD (power) "Digital Supply Voltage (+2.7 V to +5.5 V).", 28 CLOCK (in) "Clock Input. Data latched on positive edge of clock."

## THS5661AIPWR_mod
designator U?, comment THS5661AIPWR
Single 12-Bit TxDAC, 125 Msps, -40 to +85 degC, RU-28, Pb-Free, Tube; Manufacturer: Texas Instruments; Settling Time: 35ns; Number of Bits: 12; Data Interface: Parallel; Number of Converters: 1; Voltage Supply Source: Analog and Digital; Number of Outputs and Type: 2 Current, Unipolar; Sampling Rate (Per Second): 125M; Supplier 1: Digi-Key; Manufacturer Part Number: THS5661AIPWR; RoHS: RoHS Compliant; Category: Integrated Circuits (ICs); Stock 1: 1433; Pricing 1: 1=13.48, 10=12.236, 25=11.3456, 100=10.395, 250=9.504, 500=8.8506, 750=8.4348, 1000=7.425 (USD); Packaging: Cut Tape (CT); Operating Temperature: -40°C ~ 85°C; Mounting Type: Surface Mount; Package / Case: 28-TSSOP (0.173", 4.40mm Width); Supplier Device Package: 28-TSSOP; ComponentLink1URL: http://www.ti.com/lit/ds/symlink/ths5661a.pdf; ComponentLink1Description: http://www.ti.com/lit/ds/symlink/ths5661a.pdf; Supplier Part Number 1: 296-27686-1-ND
footprint RU-28_L (TSOP, 28-Leads, Body 9.7x4.4mm, Pitch 0.65mm, IPC High Density)
footprint RU-28_M (TSOP, 28-Leads, Body 9.7x4.4mm, Pitch 0.65mm, IPC Low Density)
footprint RU-28_N (TSOP, 28-Leads, Body 9.7x4.4mm, Pitch 0.65mm, IPC Medium Density)
pins: 1 DB11 (in) "Most Significant Data Bit (MSB).", 2 DB10 (in) "Data Bit 10", 3 DB9 (in) "Data Bit 9", 4 DB8 (in) "Data Bit 8", 5 DB7 (in) "Data Bit 7", 6 DB6 (in) "Data Bit 6", 7 DB5 (in) "Data Bit 5", 8 DB4 (in) "Data Bit 4", 9 DB3 (in) "Data Bit 3", 10 DB2 (in) "Data Bit 2", 11 DB1 (in) "Data Bit 1", 12 DB0 (in) "Least Significant Data Bit (LSB).", 13 NC "No Internal Connection.", 14 NC "No Internal Connection.", 15 SLEEP (in) "Power-down Control Input. Active High. Contains active pull-down circuit, thus may be left unterminated if not used.", 16 REFLO "Reference Ground when Internal 1.2 V Reference Used. Connect to AVDD to disable internal reference.", 17 REFIO (io) "Reference Input/Output. Serves as reference input when internal reference disabled (i.e., Tie REFLO to AVDD). Serves as 1.2 V reference output when internal reference activated (i.e., Tie REFLO to ACOM). Requires 0.1 uF (See Datasheet)", 18 FS ADJ (in) "Full-Scale Current Output Adjust.", 19 COMP1 "Bandwidth/Noise Reduction Node. Add 0.1 uF to AVDD for optimum performance.", 20 ACOM (power) "Analog Common.", 21 IOUTB "Complementary DAC Current Output. Full-scale current when all data bits are 0s.", 22 IOUTA (out) "DAC Current Output. Full-scale current when all data bits are 1s.", 23 COMP2 "Internal Bias Node for Switch Driver Circuitry. Decouple to ACOM with 0.1 uF capacitor.", 24 AVDD (power) "Analog Supply Voltage (+2.7 V to +5.5 V).", 25 MODE "No Internal Connection.", 26 DCOM (power) "Digital Common.", 27 DVDD (power) "Digital Supply Voltage (+2.7 V to +5.5 V).", 28 CLOCK (in) "Clock Input. Data latched on positive edge of clock."

## TLV70218DBVT
designator U?
Single Output LDO, 300 mA, Fixed 1.8 V Output, 2 to 5.5 V Input, with Low IQ, 5-pin SOT-23 (DBV), -40 to 125 degC, Green (RoHS & no Sb/Br); Manufacturer: Texas Instruments; PartNumber: TLV70218DBVT; Accuracy(%): 2; Fixed Output Options(V): 1.8; Iout(Max)(A): 0.3; Iq(Typ)(mA): 0.03; SubFamily: Single Channel LDO; Vdo(Typ)(mV): 220; Vin(Max)(V): 5.5; DatasheetVersion: SLVSAG6B; PackageVersion: 4073253-4/K; PackageReference: DBV5; PackageDescription: 5-Pin Plastic Small Outline, Body 1.60 Ã— 2.90 mm, Pitch 0.95 mm; Supplier 1: Digi-Key; Supplier Part Number 1: 296-37704-1-ND; Supplier 2: Digi-Key; Supplier Part Number 2: 296-27889-1-ND; Supplier 3: Digi-Key; Supplier Part Number 3: 296-27889-6-ND; Supplier 4: Newark; Supplier Part Number 4: 13T5898; Supplier 5: Mouser; Supplier Part Number 5: 595-TLV70218DBVT; Eco-Plan: Green (RoHS & no Sb/Br); Vin(Min)(V): 2; Vout Adj(Max)(V): 1.8; Vout Adj(Min)(V): 1.8; Mounting Technology: Surface Mount; Code_JEDEC: MO-178; ComponentLink1Description: Manufacturer URL; ComponentLink1URL: http://www.ti.com/; ComponentLink2Description: Datasheet; ComponentLink2URL: http://www.ti.com/general/docs/lit/getliterature.tsp?genericPartNumber=TLV70218&fileType=pdf; ComponentLink3Description: Package Specification; ComponentLink3URL: http://www.ti.com/litv/pdf/mpds018i
footprint TI-DBV5_N (SOT23, 5-Leads, Body 2.9x1.6mm, Pitch 0.95mm, IPC Medium Density)
pins: 1 IN (power) "Input supply voltage", 2 GND (power) "Ground", 3 EN (in) "Enable input", 4 NC "No connected", 5 OUT (power) "Regulated output voltage"

## TLV70230DBVT
designator U?
Single Output LDO, 300 mA, Fixed 3 V Output, 2 to 5.5 V Input, with Low IQ, 5-pin SOT-23 (DBV), -40 to 125 degC, Green (RoHS & no Sb/Br); Manufacturer: Texas Instruments; PartNumber: TLV70230DBVT; Accuracy(%): 2; Fixed Output Options(V): 3; Iout(Max)(A): 0.3; Iq(Typ)(mA): 0.03; SubFamily: Single Channel LDO; Vdo(Typ)(mV): 220; Vin(Max)(V): 5.5; DatasheetVersion: SLVSAG6B; PackageVersion: 4073253-4/K; PackageReference: DBV5; PackageDescription: 5-Pin Plastic Small Outline, Body 1.60 Ã— 2.90 mm, Pitch 0.95 mm; Supplier 1: Digi-Key; Supplier Part Number 1: 296-27893-2-ND; Supplier 2: Digi-Key; Supplier Part Number 2: 296-27893-1-ND; Supplier 3: Digi-Key; Supplier Part Number 3: 296-27893-6-ND; Supplier 4: Newark; Supplier Part Number 4: 13T5906; Supplier 5: Mouser; Supplier Part Number 5: 595-TLV70230DBVT; Eco-Plan: Green (RoHS & no Sb/Br); Vin(Min)(V): 2; Vout Adj(Max)(V): 3; Vout Adj(Min)(V): 3; Mounting Technology: Surface Mount; Code_JEDEC: MO-178; ComponentLink1Description: Manufacturer URL; ComponentLink1URL: http://www.ti.com/; ComponentLink2Description: Datasheet; ComponentLink2URL: http://www.ti.com/general/docs/lit/getliterature.tsp?genericPartNumber=TLV70230&fileType=pdf; ComponentLink3Description: Package Specification; ComponentLink3URL: http://www.ti.com/litv/pdf/mpds018i
footprint TI-DBV5_N (SOT23, 5-Leads, Body 2.9x1.6mm, Pitch 0.95mm, IPC Medium Density)
pins: 1 IN (power) "Input supply voltage", 2 GND (power) "Ground", 3 EN (in) "Enable input", 4 NC "No connected", 5 OUT (power) "Regulated output voltage"

## TLV70233DBVT
designator U?
Single Output LDO, 300 mA, Fixed 3.3 V Output, 2 to 5.5 V Input, with Low IQ, 5-pin SOT-23 (DBV), -40 to 125 degC, Green (RoHS & no Sb/Br); Manufacturer: Texas Instruments; Manufacturer Part Number: TLV70233DBVR; Regulator Topology: Positive Fixed; Voltage - Output: 3.3V; Current - Output: 300mA; Number of Regulators: 1; Voltage - Input: Up to 5.5V; Current - Limit (Min): 320mA; Supplier 1: Digi-Key; Supplier Part Number 1: 296-32415-1-ND; RoHS: RoHS Compliant; Category: Integrated Circuits (ICs); Stock: 12290; Pricing: 1=0.57, 10=0.478, 25=0.4188, 100=0.3584, 250=0.31088, 500=0.26332, 750=0.22736, 1000=0.203 (USD); Packaging: Cut Tape (CT); Voltage - Dropout (Typical): -; Operating Temperature: -40°C ~ 125°C; Mounting Type: Surface Mount; Package / Case: SC-74A, SOT-753; Supplier Device Package: SOT-23-5; ComponentLink1URL: http://www.ti.com/lit/ds/symlink/tlv70225.pdf; ComponentLink1Description: http://www.ti.com/lit/ds/symlink/tlv70225.pdf
footprint TI-DBV5_N (SOT23, 5-Leads, Body 2.9x1.6mm, Pitch 0.95mm, IPC Medium Density)
pins: 1 IN (power) "Input supply voltage", 2 GND (power) "Ground", 3 EN (in) "Enable input", 4 NC "No connected", 5 OUT (power) "Regulated output voltage"

## TLV70718PDQNR
designator U?
Single Output Low Noise LDO, 200 mA, Fixed 1.8 V Output, 2 to 5.5 V Input, 4-pin X2SON (DQN), -40 to 85 degC, Green (RoHS & no Sb/Br); Manufacturer: Texas Instruments; Manufacturer Part Number: TLV70718PDQNT; Regulator Topology: Positive Fixed; Voltage - Output: 1.8V; Current - Output: 200mA; Number of Regulators: 1; Voltage - Input: 2 V ~ 5.5 V; Current - Limit (Min): 240mA; Supplier 1: Digi-Key; Supplier Part Number 1: 296-28351-1-ND; RoHS: RoHS Compliant; Category: Integrated Circuits (ICs); Stock: 25; Pricing: 1=0.59, 10=0.494, 25=0.4332, 100=0.3708 (USD); Packaging: Cut Tape (CT); Voltage - Dropout (Typical): -; Operating Temperature: -40°C ~ 85°C; Mounting Type: Surface Mount; Package / Case: 4-XDFN Exposed Pad; Supplier Device Package: 4-X2SON (1x1); ComponentLink1URL: http://www.ti.com/lit/ds/symlink/tlv70718p.pdf; ComponentLink1Description: http://www.ti.com/lit/ds/symlink/tlv70718p.pdf
footprint TI-DQN4-480X480TP_V (SON, 4-Leads, Body 1x1mm, Pitch 0.65mm, Thermal Pad 0.5x0.5mm)
pins: 1 OUT (power) "Regulated output voltage pin. A small 1 uF ceramic capacitor is needed from this pin to ground to assure stability.", 2 GND (power) "Ground pin", 3 EN (in) "Enable pin. Driving EN over 0.9 V turns on the regulator. Driving EN below 0.4 V puts the regulator into shutdown mode For TLV707xxP, output voltage is discharged through an internal 120-ohm resistor when device is shut down.", 4 IN (power) "Input pin. A small 1uF ceramic capacitor is recommended from this pin to ground for good transient performance.", 5 EP "Exposed thermal pad"

## TMP235A2DCKT
designator U?
Temperature Sensor Analog, Local -40°C ~ 150°C 10mV/°C SC-70-5; Manufacturer: Texas Instruments; ComponentLink1Description: Datasheet; ComponentLink1URL: http://www.ti.com/general/docs/suppproductinfo.tsp?distId=10&gotoUrl=http%3A%2F%2Fwww.ti.com%2Flit%2Fgpn%2Ftmp235; Supplier 1: Digi-Key; Manufacturer Part Number: TMP235A2DCKT; Stock 1: 1643; Pricing 1: 1 = 1.01000, 10 = 0.83400, 25 = 0.73280, 100 = 0.51870 (USD); RoHS: No; Min Operating Temperature: -40°C; Max Operating Temperature: 150°C; Interface: Analog; ComponentLink2URL: http://www.ti.com/lit/ds/symlink/tmp235.pdf?src-supplier=Digi-Key; ComponentLink2Description: http://www.ti.com/lit/ds/symlink/tmp235.pdf?src-supplier=Digi-Key; Supplier Part Number 1: 296-48860-1-ND
footprint SC70-5 (SOT23, 5-Leads, Body 2.0x1.4mm, Pitch 0.65mm)
pins: 1 NC, 2 GND, 3 Vout, 4 Vdd, 5 NC

## TPC Wire Pad
designator *  (value not drawn)
footprint TPC Wire Pad
pins: 1

## TPD2E001DRLR
designator U?  (value not drawn)
Low-Capacitance + / - 15 kV ESD-Protection Array for High-Speed Data Interfaces, 2 Channels, -40 to +85 degC, 5-pin SOT (DRL), Green (RoHS & no Sb/Br); Manufacturer: Texas Instruments; Breakdown Voltage(Min)(V): 11; IEC 61000-4-2 Air-Gap(+/- kV): 15; IEC 61000-4-2 Contact(+/- kV): 8; IO Capacitance(Typ)(pF): 1.5; IO Leakage Current(nA): 1; SubFamily: ESD Solution; USB High Speed: TRUE; DatasheetVersion: SLLS684F; PackageVersion: revD, Aug-2007; PackageReference: DRL5; PackageDescription: 5-Pin Plastic Small Outline, Flat Lead 0.5 mm Pitch; Supplier 1: Digi-Key; Supplier Part Number 1: 296-21883-2-ND; Supplier 2: Digi-Key; Supplier Part Number 2: 296-21883-1-ND; Supplier 3: Digi-Key; Supplier Part Number 3: 296-21883-6-ND; Supplier 4: Farnell; Supplier Part Number 4: 1412055; Supplier 5: Newark; Supplier Part Number 5: 41M5840; Supplier 6: Mouser; Supplier Part Number 6: 595-TPD2E001DRLR; Eco-Plan: Green (RoHS & no Sb/Br); Mounting Technology: Surface Mount; PartNumber: TPD2E001DRLR; ComponentLink1Description: Datasheet; ComponentLink1URL: http://www.ti.com/general/docs/lit/getliterature.tsp?genericPartNumber=TPD2E001&fileType=pdf; ComponentLink2Description: URL Link1; ComponentLink2URL: SamplesURL:http://www.ti.com/product/tpd2e001#samples
footprint DRL5_L (SOTFL, 5-Flat Leads, Body 1.2x1.6x0.6mm, Pitch 0.5mm, IPC High Density)
footprint DRL5_M (SOTFL, 5-Flat Leads, Body 1.2x1.6x0.6mm, Pitch 0.5mm, IPC Low Density)
footprint DRL5_N (SOTFL, 5-Flat Leads, Body 1.2x1.6x0.6mm, Pitch 0.5mm, IPC Medium Density)
footprint DRL5_V (SOTFL, 5-Flat Leads, Body 1.2x1.6x0.6mm, Pitch 0.5mm, TI Recommended)
pins: 1 VCC (power) "Power-supply input. Bypass VCC to GND with a 0.1-uF ceramic capacitor.", 2 NC "No connection. Not internally connected.", 3 IO1 "ESD-protected channel", 4 GND (power) "Ground", 5 IO2 "ESD-protected channel"

## TPS22918
designator TPS22918TDBVTQ1, comment TPS22918TDBVTQ1  (value not drawn)
IC POWER SWITCH N-CH 1:1 23SOT; Manufacturer: Texas Instruments; On-State Resistance: 52mR; Number of Outputs: 1; Supplier 1: Digi-Key; Manufacturer Part Number: TPS22918TDBVTQ1; Stock 1: 2582; Pricing 1: 1=0.82, 10=0.724, 100=0.5551 (USD); Case/Package: SOT-23; Number of Pins: 8; Min Operating Temperature: -40°C; Max Operating Temperature: 105°C; Packaging: Cut Tape; Number of Channels: 1; REACH SVHC: No SVHC; Lead Free: Lead Free; ComponentLink1URL: http://www.farnell.com/datasheets/2113494.pdf; ComponentLink1Description: http://www.farnell.com/datasheets/2113494.pdf; Supplier Part Number 1: 296-44613-1-ND
pins: 1 VIN, 2 GND, 3 ON, 4 CT, 5 QOD, 6 VOUT

## TPS27081ADDCR
designator U?
IC LOAD SW HIGH SIDE 6SOT; Manufacturer: Texas Instruments; Number of Outputs: 1; Output Current: 3A; Max Power Dissipation: 1.19W; Max Supply Voltage: 8V; Min Supply Voltage: 1.2V; On-State Resistance: 82mR; Interface: On/Off; Number of Drivers: 2; Supplier 1: Digi-Key; Manufacturer Part Number: TPS27081ADDCR; Stock 1: 527019; Pricing 1: 1 = 0.88000, 10 = 0.77800, 100 = 0.59680, 500 = 0.47174, 1000 = 0.37739 (USD); RoHS: Yes; Mount: Surface Mount; Case/Package: SOT-23-6; Number of Pins: 6; Weight: 0.00127oz; Min Operating Temperature: -40°C; Max Operating Temperature: 85°C; Packaging: Tape and Reel; Package Quantity: 3000; Max Output Current: 3A; Power Dissipation: 1.19W; Number of Channels: 1; Output Configuration: High Side; Length: 3.02mm; Height: 0.8mm; Width: 1.75mm; Radiation Hardening: No; REACH SVHC: No SVHC; Lead Free: Lead Free; Supplier Part Number 1: 296-34970-1-ND; ComponentLink1Description: Datasheet; ComponentLink1URL: http://www.ti.com/lit/ds/symlink/tps27082l.pdf; ComponentLink2Description: Supplier Link; ComponentLink2URL: https://www.digikey.com/products/en?keywords=296-34970-1-ND
footprint SOT-6 TI-DDC (SOT-23, 6-Leads, Body 2.90x1.60mm, Pitch 0.95mm)
pins: 1 R2, 2 VO, 3 VO, 4 VIN, 5 CTL, 6 R1/C1

## TPS27082LDDCR
designator U?
IC LOAD SW HIGH SIDE 6SOT; Manufacturer: Texas Instruments; Switch Type: General Purpose; Number of Outputs: 1; Ratio - Input:Output: 1:1; Output Type: P-Channel; Interface: On/Off; Voltage - Load: 1.2 V ~ 8 V; Voltage - Supply (Vcc/Vdd): Not Required; Current - Output (Max): 3A; Rds On (Typ): 32 mOhm; Supplier 1: Digi-Key; Manufacturer Part Number: TPS27082LDDCR; RoHS: RoHS Compliant; Category: Integrated Circuits (ICs); Stock 1: 1140; Pricing 1: 1=0.52, 10=0.397, 100=0.209, 1000=0.187 (USD); Packaging: Cut Tape (CT); Output Configuration: High Side; Input Type: -; Features: Slew Rate Controlled; Fault Protection: -; Operating Temperature: -40°C ~ 125°C (TA); Package / Case: SOT-23-6 Thin, TSOT-23-6; Supplier Device Package: 6-SOT; ComponentLink1URL: http://www.ti.com/lit/ds/symlink/tps27082l.pdf; ComponentLink1Description: http://www.ti.com/lit/ds/symlink/tps27082l.pdf; Supplier Part Number 1: 296-35595-1-ND
footprint SOT-6 TI-DDC (SOT-23, 6-Leads, Body 2.90x1.60mm, Pitch 0.95mm)
pins: 1 GND, 2 VO, 3 VO, 4 VIN, 5 CTL, 6 R1/C1

## TPS51100DGQR
designator U?
Single Output LDO, 3 A, 4.75 to 5.25 V Input, with DDR Terminator, 10-pin MSOP (DGQ), -40 to 85 degC, Green (RoHS & no Sb/Br); Manufacturer: Texas Instruments; Iout(Max)(A): 3; Iq(Typ)(mA): 0.5; Rating: Catalog; SubFamily: Single Channel LDO; Vin(Max)(V): 5.25; Vin(Min)(V): 4.7; DatasheetVersion: SLUS600D; PackageVersion: 4073273/F; PackageReference: DGQ10-1675X1445TP; PackageDescription: 10-Pin Plastic Small Outline, Body 3 x 3 mm, Pitch 0.5 mm; Supplier 1: Digi-Key; Supplier Part Number 1: 296-23595-2-ND; Supplier 2: Digi-Key; Supplier Part Number 2: 296-23595-1-ND; Supplier 3: Digi-Key; Supplier Part Number 3: 296-23595-6-ND; Supplier 4: Farnell; Supplier Part Number 4: 1412388; Supplier 5: Newark; Supplier Part Number 5: 10J9767; Supplier 6: Mouser; Supplier Part Number 6: 595-TPS51100DGQR; Eco-Plan: Green (RoHS & no Sb/Br); Mounting Technology: Surface Mount; Code_JEDEC: MO-187; PartNumber: TPS51100DGQR; ComponentLink1Description: Manufacturer URL; ComponentLink1URL: http://www.ti.com/; ComponentLink2Description: Datasheet; ComponentLink2URL: http://www.ti.com/general/docs/lit/getliterature.tsp?genericPartNumber=TPS51100&fileType=pdf; ComponentLink3Description: Package Specification; ComponentLink3URL: http://www.ti.com/litv/pdf/mpds043e; ComponentLink4Description: URL Link1; ComponentLink4URL: Samples URL:http://www.ti.com/product/tps51100#samples
footprint TI-DGQ10-1675X1445TP_N (SOP, 10-Leads, Body 3.0x3.0mm, Pitch 0.5mm, Thermal Pad 1.675X1.445mm, IPC Medium Density)
footprint TI-DGQ10-1675X1445TP_L (SOP, 10-Leads, Body 3.0x3.0mm, Pitch 0.5mm, Thermal Pad 1.675X1.445mm, IPC High Density)
footprint TI-DGQ10-1675X1445TP_M (SOP, 10-Leads, Body 3.0x3.0mm, Pitch 0.5mm, Thermal Pad 1.675X1.445mm, IPC Low Density)
pins: 1 VDDQSNS (in) "VDDQ sense input", 2 VLDOIN (power) "Power supply for the VTT LDO and VTTREF output stage", 3 VTT (power) "Power output for the VTT LDO", 4 PGND (power) "Power ground output for the VTT LDO", 5 VTTSNS (in) "Voltage sense input for the VTT LDO. Connect to plus terminal of the output capacitor.", 6 VTTREF "VTT reference output. Connect to GND through 0.1-uF ceramic capacitor.", 7 S3 (in) "S3 signal input", 8 GND (power) "Signal ground. Connect to negative terminal of the output capacitor", 9 S5 (in) "S5 signal input", 10 VIN (power) "5-V power supply", 11 EP (power) "Thermal pad"